# Altium footprint library MZ7XA_FUN20171227.PcbLib: 33 footprints (part 2 of 3)
Each footprint in its own frame and in the unit in brackets; x right, y up, seen from the top. Pads: shape width x height; smd on the part's side, far side on the other; paste and mask are expansions set on the pad; w line width, h text height; cw(c..) or ccw(c..) is an arc to the next point about the centre after c.
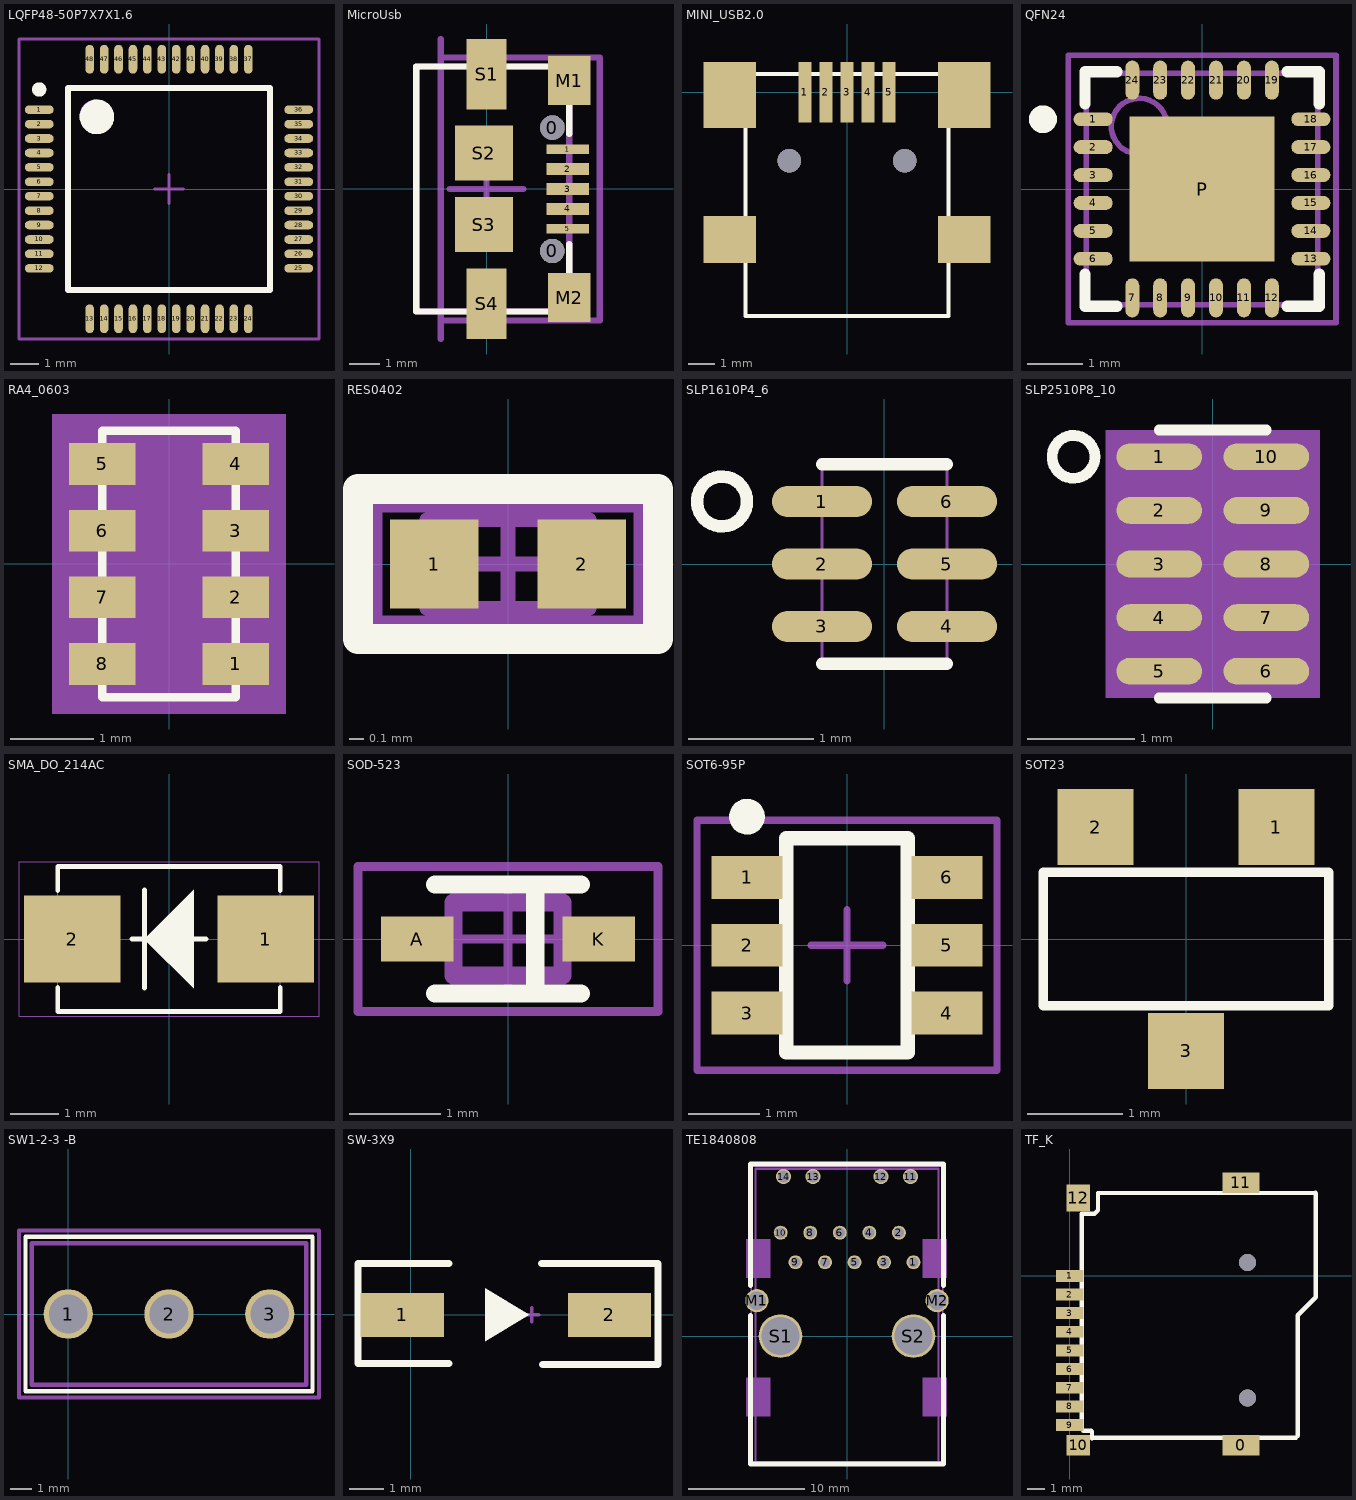
[diagram p1: the footprints below, top view; thin cyan lines are the x and y axes]

## LQFP48-50P7X7X1.6 [mm]
pads (48):
  oval 1x0.3 smd: 1(-4.5,2.75) 2(-4.5,2.25) 3(-4.5,1.75) 4(-4.5,1.25) 5(-4.5,0.75) 6(-4.5,0.25) 7(-4.5,-0.25) 8(-4.5,-0.75) 9(-4.5,-1.25) 10(-4.5,-1.75) 11(-4.5,-2.25) 12(-4.5,-2.75) 25(4.5,-2.75) 26(4.5,-2.25) 27(4.5,-1.75) 28(4.5,-1.25) 29(4.5,-0.75) 30(4.5,-0.25) 31(4.5,0.25) 32(4.5,0.75) 33(4.5,1.25) 34(4.5,1.75) 35(4.5,2.25) 36(4.5,2.75)
  oval 0.3x1 smd: 13(-2.75,-4.5) 14(-2.25,-4.5) 15(-1.75,-4.5) 16(-1.25,-4.5) 17(-0.75,-4.5) 18(-0.25,-4.5) 19(0.25,-4.5) 20(0.75,-4.5) 21(1.25,-4.5) 22(1.75,-4.5) 23(2.25,-4.5) 24(2.75,-4.5) 37(2.75,4.5) 38(2.25,4.5) 39(1.75,4.5) 40(1.25,4.5) 41(0.75,4.5) 42(0.25,4.5) 43(-0.25,4.5) 44(-0.75,4.5) 45(-1.25,4.5) 46(-1.75,4.5) 47(-2.25,4.5) 48(-2.75,4.5)
Top Overlay:
  circle w0.25: c-4.5,3.45 r0.125
  circle w0.6: c-2.5,2.5 r0.3
  lines w0.2: -3.5,-3.5 -3.5,3.5 3.5,3.5 3.5,-3.5 -3.5,-3.5
Mechanical 13:
  circle w0.1: c-2.55,2.55 r0.5
  lines w0.1: -3.5,-3.5 -3.5,3.5 3.5,3.5 3.5,-3.5 -3.5,-3.5
Mechanical 15:
  lines w0.1: -0.5,0 0.5,0 ; 0,-0.5 0,0.5 ; -5.2,-5.2 -5.2,5.2 5.2,5.2 5.2,-5.2 -5.2,-5.2
3D body: height 1.6, standoff 0.1, extent -3.5,-3.5 3.5,3.5

## MicroUsb [mm]
pads (13):
  round 0.8 hole 0.8: 0(2.144,-2.032) 0(2.15,2)
  rect 1.4x0.305 smd: 1(2.647,1.293) 5(2.647,-1.307)
  rect 1.4x0.4 smd: 2(2.647,0.643) 3(2.647,-0.007) 4(2.647,-0.657)
  rect 1.4x1.6 smd: M1(2.697,3.531) M2(2.697,-3.556)
  rect 1.3x2.3 smd: S1(-0.003,3.743) S4(-0.003,-3.757)
  rect 1.9x1.8 smd: S2(-0.092,1.168) S3(-0.092,-1.168)
Top Overlay:
  lines w0.203: 2.697,-1.807 2.697,-4.007 -2.303,-4.007 -2.303,3.993 2.697,3.993 2.697,1.793
Mechanical 13:
  lines w0.203: -2.303,-4.007 2.697,-4.007 2.697,3.993 -2.303,3.993 -2.303,-4.007
Mechanical 15:
  lines w0.203: -1.503,-4.907 -1.503,-2.507 ; -1.503,2.493 -1.503,4.893 ; -1.203,-0.007 1.197,-0.007 ; -0.003,-1.207 -0.003,1.193 ; -1.503,-4.307 3.697,-4.307 3.697,-3.107 3.697,4.293 -1.503,4.293 -1.503,-4.307
3D body: height 2, standoff 0, extent -2.37,-3.743 2.63,4.257

## MINI_USB2.0 [mm]
pads (9):
  rect 0.5x2.3 smd: 1(-1.6,0) 2(-0.8,0) 3(0,0) 4(0.8,0) 5(1.6,0)
  rect 2x1.789 smd: ""(-4.45,-5.6) ""(4.45,-5.6)
  rect 2x2.5 smd: ""(-4.45,-0.1) ""(4.45,-0.1)
via 2.2,-2.6 diameter 0.9 hole 0.9
via -2.2,-2.6 diameter 0.9 hole 0.9
Top Overlay:
  lines w0.15: -3.85,-8.5 -3.85,0.7 3.85,0.7 3.85,-8.5 -3.85,-8.5

## QFN24 [mm]
pads (25):
  oval 0.7x0.25 smd: 1(-1.95,1.25) 2(-1.95,0.75) 3(-1.95,0.25) 4(-1.95,-0.25) 5(-1.95,-0.75) 6(-1.95,-1.25) 13(1.95,-1.25) 14(1.95,-0.75) 15(1.95,-0.25) 16(1.95,0.25) 17(1.95,0.75) 18(1.95,1.25)
  oval 0.25x0.7 smd: 7(-1.25,-1.95) 8(-0.75,-1.95) 9(-0.25,-1.95) 10(0.25,-1.95) 11(0.75,-1.95) 12(1.25,-1.95) 19(1.25,1.95) 20(0.75,1.95) 21(0.25,1.95) 22(-0.25,1.95) 23(-0.75,1.95) 24(-1.25,1.95)
  rect 2.6x2.6 smd: P(0,0)
Top Overlay:
  circle w0.25: c-2.85,1.25 r0.125
  lines w0.2: -2.1,-1.525 -2.1,-2.1 -1.525,-2.1 ; -2.1,1.525 -2.1,2.1 -1.525,2.1 ; 1.525,-2.1 2.1,-2.1 2.1,-1.525 ; 1.525,2.1 2.1,2.1 2.1,1.525
Mechanical 13:
  circle w0.1: c-1.125,1.125 r0.5
  lines w0.1: -2.075,-2.075 -2.075,2.075 2.075,2.075 2.075,-2.075 -2.075,-2.075
Mechanical 15:
  lines w0.1: -0.5,0 0.5,0 ; 0,-0.5 0,0.5 ; -2.4,-2.4 -2.4,2.4 2.4,2.4 2.4,-2.4 -2.4,-2.4
3D body: height 0.8, standoff 0.05, extent -2.075,-2.075 2.075,2.075

## RA4_0603 [mm]
pads (8):
  rect 0.8x0.5 smd: 1(0.8,-1.2) 2(0.8,-0.4) 3(0.8,0.4) 4(0.8,1.2) 5(-0.8,1.2) 6(-0.8,0.4) 7(-0.8,-0.4) 8(-0.8,-1.2)
Top Overlay:
  lines w0.1: -0.8,-1.6 -0.8,1.6 0.8,1.6 0.8,-1.6 -0.8,-1.6
Mechanical 9:
  region: 1.4,1.8 1.4,-1.8 -1.4,-1.8 -1.4,1.8
Mechanical 10:
  pour cut-out: 1.4,-1.8 1.1,-1.8 1.4,-1.5
  lines w0.025: -0.8,-1.6 0.8,-1.6 0.8,1.6 -0.8,1.6 -0.8,-1.6
3D body: height 3.81, standoff 0, extent -1.4,-1.8 1.4,1.8

## RES0402 [mm]
pads (2):
  rect 0.6x0.6 smd: 1(-0.5,0) 2(0.5,0)
Top Overlay:
  lines w0.2: -1.016,-0.508 -1.016,0.508 1.016,0.508 1.016,-0.508 -1.016,-0.508
Mechanical 13:
  lines w0.1: -0.55,-0.3 0.55,-0.3 0.55,0.3 -0.55,0.3 -0.55,-0.3
Mechanical 15:
  lines w0.1: -0.3,0 0.3,0 ; 0,-0.3 0,0.3 ; -0.9,-0.4 -0.9,0.4 0.9,0.4 0.9,-0.4 -0.9,-0.4
3D body: height 0.6, standoff 0, extent -0.55,-0.3 0.55,0.3

## SLP1610P4_6 [mm]
pads (6):
  oval 0.8x0.25 smd: 1(-0.5,0.5) 2(-0.5,0) 3(-0.5,-0.5) 4(0.5,-0.5) 5(0.5,0) 6(0.5,0.5)
Top Overlay:
  circle w0.1: c-1.3,0.5 r0.2
  lines w0.1: -0.5,-0.8 0.5,-0.8 ; -0.5,0.8 0.5,0.8
Mechanical 6:
  text "1" at -0.5,-0.07 h0.76
Mechanical 7:
  lines w0.025: -0.5,-0.8 0.5,-0.8 0.5,0.8 -0.5,0.8 -0.5,-0.8
3D body: height 3.81, standoff 0, extent -1,-0.8 1,0.8

## SLP2510P8_10 [mm]
pads (10):
  oval 0.8x0.25 smd: 1(-0.5,1) 2(-0.5,0.5) 3(-0.5,0) 4(-0.5,-0.5) 5(-0.5,-1) 6(0.5,-1) 7(0.5,-0.5) 8(0.5,0) 9(0.5,0.5) 10(0.5,1)
Top Overlay:
  circle w0.1: c-1.3,1 r0.2
  lines w0.1: -0.5,-1.25 0.5,-1.25 ; -0.5,1.25 0.5,1.25
Mechanical 6:
  text "4" at -0.5,-0.43 h0.76
  text "5" at -0.5,-0.93 h0.76
  text "6" at 0.5,-0.93 h0.76
  text "3" at -0.5,0.07 h0.76
Mechanical 7:
  lines w0.025: -0.5,-1.25 -0.5,1.25 0.5,1.25 0.5,-1.25 -0.5,-1.25
Mechanical 8:
  region: -1,-1.25 1,-1.25 1,1.25 -1,1.25
3D body: height 3.81, standoff 0, extent -1,-1.25 1,1.25

## SMA_DO_214AC [mm]
pads (2):
  rect 2x1.8 smd: 1(2,0) 2(-2,0)
Top Overlay:
  pour cut-out: 0.508,-1.016 0.508,1.016 -0.508,0
  lines w0.1: -2.3,-1 -2.3,-1.5 2.3,-1.5 2.3,-1 ; -2.3,1 -2.3,1.5 2.3,1.5 2.3,1 ; -0.762,0 0.762,0 ; -0.508,-1.016 -0.508,1.016
Mechanical 6:
  text "2" at -2,0.45 h0.76
  text "1" at 2,0.45 h0.76
Mechanical 9:
  lines w0.025: -3.1,-1.6 3.1,-1.6 3.1,1.6 -3.1,1.6 -3.1,-1.6
Mechanical 10:
  lines w0.025: -2.3,-1.5 2.3,-1.5 2.3,1.5 -2.3,1.5 -2.3,-1.5

## SOD-523 [mm]
pads (2):
  rect 0.8x0.5 smd: A(-1,0) K(1,0)
Top Overlay:
  lines w0.2: -0.8,-0.6 0.8,-0.6 ; -0.8,0.6 0.8,0.6 ; 0.3,-0.6 0.3,0.6
Mechanical 13:
  lines w0.2: -0.6,-0.4 -0.6,0.4 0.6,0.4 0.6,-0.4 -0.6,-0.4
Mechanical 15:
  lines w0.1: -0.5,0 0.5,0 ; 0,-0.6 0,0.6 ; -1.651,-0.8 -1.651,0.8 1.651,0.8 1.651,-0.8 -1.651,-0.8
3D body: height 2, standoff 0, extent -0.6,-0.4 0.6,0.4

## SOT6-95P [mm]
pads (6):
  rect 1x0.6 smd: 1(-1.4,0.95) 2(-1.4,0) 3(-1.4,-0.95) 4(1.4,-0.95) 5(1.4,0) 6(1.4,0.95)
Top Overlay:
  circle w0.25: c-1.4,1.8 r0.125
  lines w0.2: -0.85,-1.5 0.85,-1.5 0.85,1.5 -0.85,1.5 -0.85,-1.5
Mechanical 13:
  lines w0.1: -0.85,-1.5 -0.85,1.5 0.85,1.5 0.85,-1.5 -0.85,-1.5
Mechanical 15:
  lines w0.1: -0.5,0 0.5,0 ; 0,-0.5 0,0.5 ; -2.1,-1.75 -2.1,1.75 2.1,1.75 2.1,-1.75 -2.1,-1.75
3D body: height 1.3, standoff 0.05, extent -0.85,-1.5 0.85,1.5

## SOT23 [mm]
pads (3):
  rect 0.8x0.8 smd: 1(0.95,1.175) 2(-0.95,1.175) 3(0,-1.175)
Top Overlay:
  lines w0.1: -1.5,-0.7 1.5,-0.7 1.5,0.7 -1.5,0.7 -1.5,-0.7
Mechanical 10:
  lines w0.025: -1.5,-0.7 -1.5,0.7 1.5,0.7 1.5,-0.7 -1.5,-0.7
3D body: height 3.81, standoff 0, extent -1.7,-1.775 1.7,1.775

## SW1-2-3 -B [mm]
pads (3):
  round 2.3 hole 1.8: 1(0,0) 2(4.7,0) 3(9.4,0)
Top Overlay:
  lines w0.203: -2,-3.6 11.4,-3.6 11.4,3.6 -2,3.6 -2,-3.6
Mechanical 13:
  lines w0.203: -1.7,-3.3 11.1,-3.3 11.1,3.3 -1.7,3.3 -1.7,-3.3
Mechanical 15:
  lines w0.203: 3.7,0 5.7,0 ; 4.7,-1 4.7,0.9 ; -2.3,-3.9 11.7,-3.9 11.7,3.9 -2.3,3.9 -2.3,-3.9
3D body: height 11, standoff 0, extent -1.7,-3.3 11.1,3.3

## SW-3X9 [mm]
pads (2):
  rect 2.4x1.27 smd: 1(-0.254,0) 2(5.715,0)
Top Overlay:
  region: 3.404,0 2.134,0.762 2.134,-0.762
  lines w0.2: 1.1,-1.397 -1.524,-1.397 -1.524,1.473 1.1,1.473 ; 3.759,1.473 7.112,1.473 ; 3.785,-1.422 7.112,-1.422 ; 7.112,-1.397 7.112,1.422
Mechanical 1:
  lines w0.1: 3.275,0 3.675,0 ; 3.475,-0.2 3.475,0.2
3D body: height 1.78, standoff 0, extent 1.524,-0.559 3.988,0.533
3D body: height 1.02, standoff 0, extent -1.422,-1.295 6.934,1.346

## TE1840808 [mm]
pads (18):
  round 1.2 hole 0.89: 1(5.715,6.35) 2(4.46,8.89) 3(3.19,6.35) 4(1.92,8.89) 5(0.65,6.35) 6(-0.62,8.89) 7(-1.89,6.35) 8(-3.16,8.89) 9(-4.43,6.35) 10(-5.7,8.89)
  round 1.3 hole 1.02: 11(5.46,13.72) 12(2.92,13.72) 13(-2.92,13.72) 14(-5.46,13.72)
  round 2 hole 1.6: M1(-7.745,3.05) M2(7.745,3.05)
  round 3.75 hole 3.25: S1(-5.715,0)
  round 3.75 hole 3.25 unplated: S2(5.715,0)
Top Overlay:
  lines w0.4: -8.3,1.778 -8.3,-11 8.3,-11 8.3,1.778 ; -8.3,4.318 -8.3,14.8 8.3,14.8 8.3,4.318
Mechanical 13:
  lines w0.2: -7.874,-10.922 7.874,-10.922 7.874,14.4 -7.874,14.4 -7.874,-10.922
Mechanical 15:
  rectangle: 6.5,5 8.6,8.35
  rectangle: 6.5,-6.9 8.6,-3.55
  rectangle: -8.7,5 -6.6,8.35
  rectangle: -8.7,-6.9 -6.6,-3.55
  lines w0.127: -8.255,-10.795 -8.255,14.605 8.255,14.605 8.255,-10.795 -8.255,-10.795
3D body: height 13, standoff 0.1, extent -7.9,-11 8,14.4

## TF_K [mm]
pads (13):
  rect 2.2x1.2 smd: 0(10.1,-10) 11(10.1,5.5)
  rect 1.6x0.7 smd: 1(0,0) 2(0,-1.1) 3(0,-2.2) 4(0,-3.3) 5(0,-4.4) 6(0,-5.5) 7(0,-6.6) 8(0,-7.7) 9(0,-8.8)
  rect 1.4x1.2 smd: 10(0.5,-10)
  rect 1.4x1.6 smd: 12(0.5,4.6)
via 10.5,0.8 diameter 1 hole 1
via 10.5,-7.2 diameter 1 hole 1
Top Layer:
  lines w0.254: 1.312,-9.594 1.362,-9.543
Top Overlay:
  lines w0.254: 1.312,-9.594 1.312,-9.187 1.261,-9.136 0.804,-9.136 0.702,-9.035 0.702,3.665 1.464,3.665 1.667,3.868 1.667,4.884 14.5,4.9 ; 1.362,-9.543 13.351,-9.543 13.453,-9.441 13.453,-2.329 14.52,-1.262 14.52,4.88